# EAGLE library part DB9M/90 (library connect)
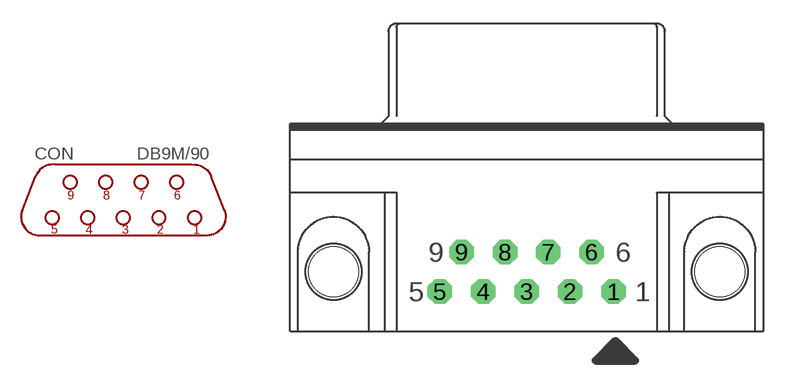
[diagram p3: symbol with the pads of D-09M/90; footprint D-09M/90]

Designator prefix CON

## DB9M/90  [D-09M/90]
1  1  pas
2  2  pas
3  3  pas
4  4  pas
5  5  pas
6  6  pas
7  7  pas
8  8  pas
9  9  pas

## Footprint D-09M/90 (pad centres in mm)
drill 1.016 pad 1.575 octagon: 1 5.588,-1.27; 2 2.794,-1.27; 3 0,-1.27; 4 -2.794,-1.27; 5 -5.588,-1.27; 6 4.191,1.27; 7 1.397,1.27; 8 -1.397,1.27; 9 -4.191,1.27
hole 3.2 at 12.446,0
hole 3.2 at -12.446,0